# Altium footprint library ANT162442ST1000AM1.PcbLib: 1 footprints
Each footprint in its own frame and in the unit in brackets; x right, y up, seen from the top. Pads: shape width x height; smd on the part's side, far side on the other; paste and mask are expansions set on the pad; w line width, h text height; cw(c..) or ccw(c..) is an arc to the next point about the centre after c.
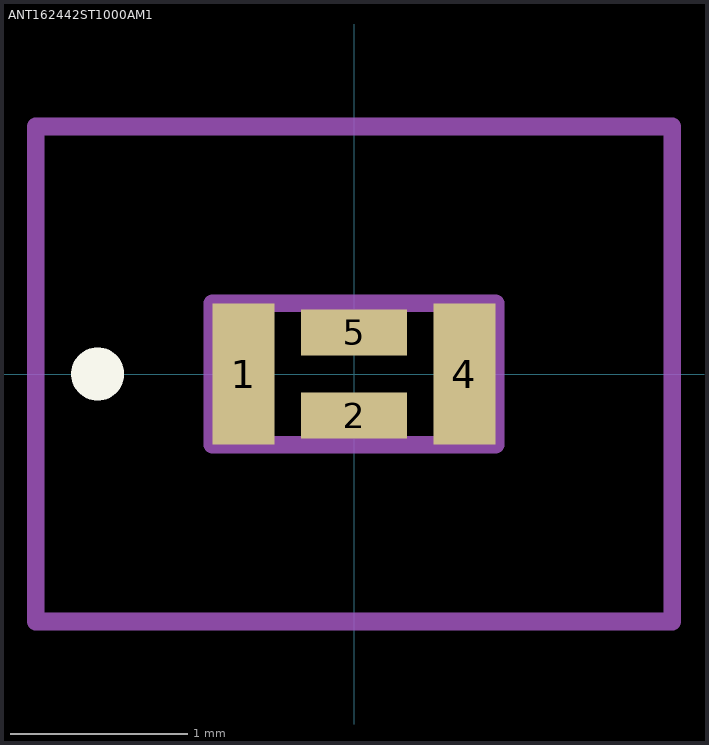
[diagram p0: the footprint, top view; thin cyan lines are the x and y axes]

## ANT162442ST1000AM1 [mm]
pads (4):
  rect 0.35x0.8 smd: 1(-0.625,0) 4(0.625,0)
  rect 0.6x0.26 smd: 2(0,-0.235) 5(0,0.235)
Top Overlay:
  lines w0.2: -1.5,0 -1.5,0 ; -1.5,0 ccw(c-1.45,0) -1.4,0 ; -1.5,0 cw(c-1.45,0) -1.4,0 ; -1.5,0 -1.5,0 ; -1.5,0 ccw(c-1.45,0) -1.4,0 ; -1.4,0 -1.4,0
Mechanical 15:
  lines w0.1: -0.8,-0.4 0.8,-0.4 0.8,0.4 -0.8,0.4 -0.8,-0.4
Mechanical 20:
  lines w0.1: -1.8,-1.4 1.8,-1.4 1.8,1.4 -1.8,1.4 -1.8,-1.4